# Altium footprint library PCB Headers.PcbLib: 2 footprints
Each footprint in its own frame and in the unit in brackets; x right, y up, seen from the top. Pads: shape width x height; smd on the part's side, far side on the other; paste and mask are expansions set on the pad; w line width, h text height; cw(c..) or ccw(c..) is an arc to the next point about the centre after c.
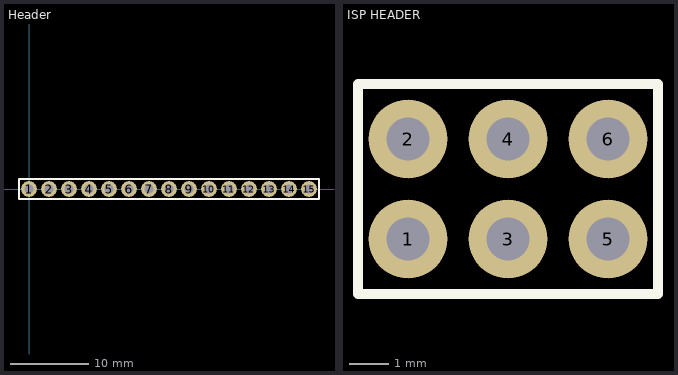
[diagram p0: the footprints below, top view; thin cyan lines are the x and y axes]

## Header [mm] "SIL Header"
height 5.84
pads (15):
  round 2 hole 1.1: 1(0,0) 2(2.54,0) 3(5.08,0) 4(7.62,0) 5(10.16,0) 6(12.7,0) 7(15.24,0) 8(17.78,0) 9(20.32,0) 10(22.86,0) 11(25.4,0) 12(27.94,0) 13(30.48,0) 14(33.02,0) 15(35.56,0)
Top Overlay:
  lines w0.254: -1.27,-1.27 -1.27,1.27 36.83,1.27 36.83,-1.27 -1.27,-1.27
3D body "User Library-HDR1X1 Rectangular Straight.step": height 8.6, standoff -3.2, extent 34.232,-1.346 36.932,1.354
3D body "User Library-HDR1X1 Rectangular Straight.step": height 8.6, standoff -3.2, extent 31.692,-1.346 34.392,1.354
3D body "User Library-HDR1X1 Rectangular Straight.step": height 8.6, standoff -3.2, extent 29.152,-1.346 31.852,1.354
3D body "User Library-HDR1X1 Rectangular Straight.step": height 8.6, standoff -3.2, extent 26.612,-1.346 29.312,1.354
3D body "User Library-HDR1X1 Rectangular Straight.step": height 8.6, standoff -3.2, extent 24.072,-1.346 26.772,1.354
3D body "User Library-HDR1X1 Rectangular Straight.step": height 8.6, standoff -3.2, extent 21.532,-1.346 24.232,1.354
3D body "User Library-HDR1X1 Rectangular Straight.step": height 8.6, standoff -3.2, extent 18.992,-1.346 21.692,1.354
3D body "User Library-HDR1X1 Rectangular Straight.step": height 8.6, standoff -3.2, extent 16.452,-1.346 19.152,1.354
3D body "User Library-HDR1X1 Rectangular Straight.step": height 8.6, standoff -3.2, extent 13.912,-1.346 16.612,1.354
3D body "User Library-HDR1X1 Rectangular Straight.step": height 8.6, standoff -3.2, extent 11.372,-1.346 14.072,1.354
3D body "User Library-HDR1X1 Rectangular Straight.step": height 8.6, standoff -3.2, extent 8.832,-1.346 11.532,1.354
3D body "User Library-HDR1X1 Rectangular Straight.step": height 8.6, standoff -3.2, extent 6.292,-1.346 8.992,1.354
3D body "User Library-HDR1X1 Rectangular Straight.step": height 8.6, standoff -3.2, extent 3.752,-1.346 6.452,1.354
3D body "User Library-HDR1X1 Rectangular Straight.step": height 8.6, standoff -3.2, extent 1.212,-1.346 3.912,1.354
3D body "User Library-HDR1X1 Rectangular Straight.step": height 8.6, standoff -3.2, extent -1.328,-1.346 1.372,1.354

## ISP HEADER [mm] "SIL Header for programming"
height 5.84
pads (6):
  round 2 hole 1.1: 1(17.653,-14.097) 2(17.653,-11.557) 3(20.193,-14.097) 4(20.193,-11.557) 5(22.733,-14.097) 6(22.733,-11.557)
Top Overlay:
  lines w0.254: 16.383,-15.494 16.383,-10.16 24.003,-10.16 24.003,-15.494 16.383,-15.494
3D body "User Library-IDC6.STEP": height 8, standoff -3, extent 16.383,-15.367 24.003,-10.287